# EAGLE library part LT1618EMS#PBF (library LT1618EMS)
Linear Technology LT1618EMS#PBF, Step Up DC-DC Converter, Maximum of 35 V 10-Pin, MSOP Source: Datasheet <https://www.analog.com/media/en/technical-documentation/data-sheets/1618fas.pdf>
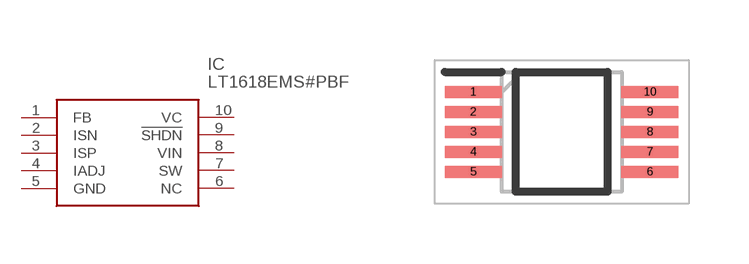
[diagram p0: symbol with the pads of SOP50P490X110-10N; footprint SOP50P490X110-10N]

Designator prefix IC

## LT1618EMS#PBF (Description: Linear Technology LT1618EMS#PBF, Step Up DC-DC Converter, Maximum of 35 V 10-Pin, MSOP; Height: 1.1mm; Manufacturer_Name: Linear Technology; Manufacturer_Part_Number: LT1618EMS#PBF; Mouser_Part_Number: 584-LT1618EMS#PBF; Mouser_Price-Stock: https://www.mouser.co.uk/ProductDetail/Analog-Devices-Linear-Technology/LT1618EMSPBF?qs=ytflclh7QUXSkJbF7xtAZg%3D%3D)  [SOP50P490X110-10N]
1  FB
2  ISN
3  ISP
4  IADJ
5  GND
6  NC  nc
7  SW
8  VIN
9  !SHDN
10  VC

## Footprint SOP50P490X110-10N (pad centres in mm)
LT1618EMS#PBF
smd 1.425 x 0.3: 1 -2.212,1; 2 -2.212,0.5; 3 -2.212,0; 4 -2.212,-0.5; 5 -2.212,-1; 6 2.212,-1; 7 2.212,-0.5; 8 2.212,0; 9 2.212,0.5; 10 2.212,1